# Altium schematic symbol library AVAGO bi-rirection optoisolated buffer.SchLib: 1 symbol
Pins are listed as number, name and electrical type; pins without a type are passive.

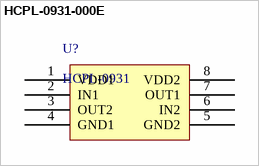
[diagram p0: symbol HCPL-0931-000E]

## HCPL-0931-000E
designator U?, comment HCPL-0931
2-bit bi-direction optoisolated buffer
footprint SOIC8 (SOIC, 8-Leads, Body 4,90x3,90mm, Pitch 1,27mm, IPC Medium Density)
pins: 1 VDD1, 2 IN1, 3 OUT2, 4 GND1, 5 GND2, 6 IN2, 7 OUT1, 8 VDD2